# EAGLE library part 620107131822 (library Wire-to-Board (rev18a))
WR-WTB 2.00mm SMT Male Horizontal Shrouded Header, 7 Pins=>Code : Con_WTB_2.00_PCB_SMT_620107131822 <http://katalog.we-online.de/media/thumbs2/eican/thb_Con_WTB_2.00_PCB_SMT_6201xx131822_pf2.jpg> Details see: http://katalog.we-online.de/en/em/WTB_2_00_SMT_MALE_HORIZONTAL_SHROUDED_HEADER_6201XX131822 Created 2014-06-05, Karrer Zheng 2014 (C) Würth Elektronik
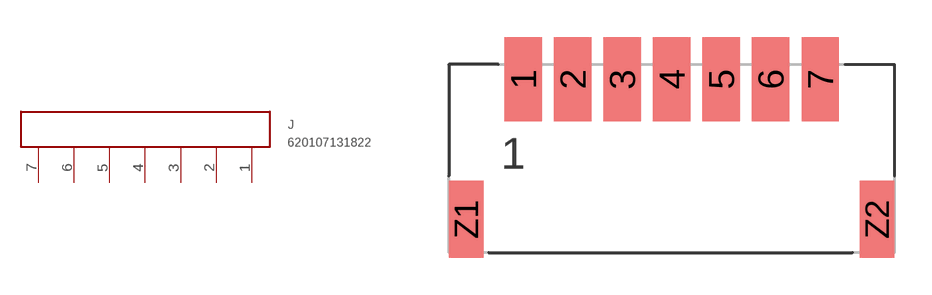
[diagram p41: symbol with the pads of 620107131822; footprint 620107131822]

Designator prefix J

## 620107131822  [620107131822]
1  7  pas
2  6  pas
3  5  pas
4  4  pas
5  3  pas
6  2  pas
7  1  pas

## Footprint 620107131822 (pad centres in mm)
WR-WTB 2.00mm SMT Male Horizontal Shrouded Header, 7 Pins
smd 1.5 x 3.4: 1 -6,0; 2 -4,0; 3 -2,0; 4 0,0; 5 2,0; 6 4,0; 7 6,0
smd 1.4 x 3.1: Z1 -8.3,-5.65; Z2 8.3,-5.65